# Altium footprint library wat.PcbLib: 1 footprints
Each footprint in its own frame and in the unit in brackets; x right, y up, seen from the top. Pads: shape width x height; smd on the part's side, far side on the other; paste and mask are expansions set on the pad; w line width, h text height; cw(c..) or ccw(c..) is an arc to the next point about the centre after c.
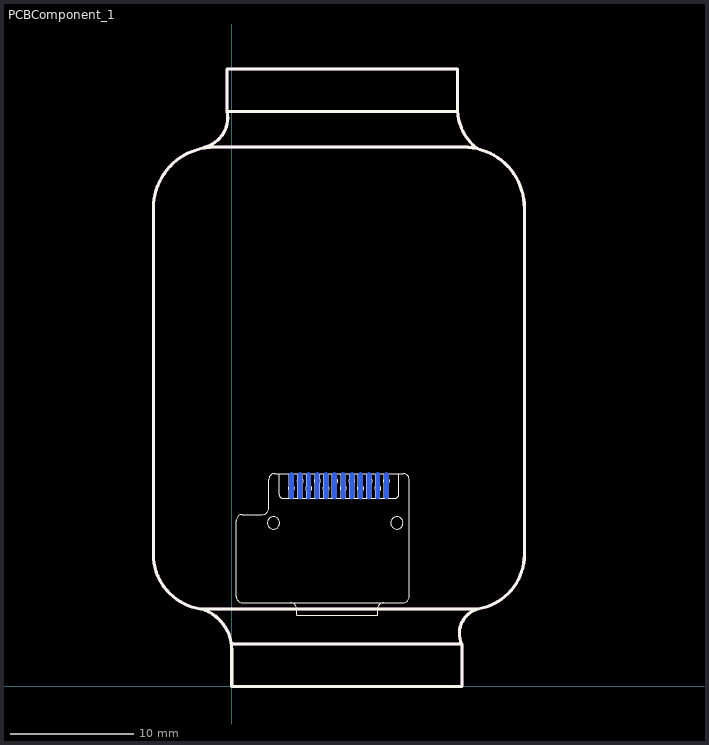
[diagram p0: the footprint, top view; thin cyan lines are the x and y axes]

## PCBComponent_1 [mm]
pads (12):
  oval 0.35x2.159 smd far side: 1(12.542,16.261) 2(11.842,16.261) 3(11.142,16.261) 4(10.442,16.261) 5(9.742,16.261) 6(9.042,16.261) 7(8.342,16.261) 8(7.642,16.261) 9(6.942,16.261) 10(6.242,16.261) 11(5.542,16.261) 12(4.842,16.261)
Top Overlay:
  drawing of 162 lines, arcs and shapes, not listed
Keep-Out Layer:
  lines w0.013: -0.483,6.321 19.687,6.321
  lines w0.254: -2.446,6.276 cw(c-3.45,2.975) 0,2.979 ; -2.277,43.688 ccw(c-2.785,46.101) -0.372,46.609 ; 0,2.975 0,0 18.669,0 18.669,3.429 0,3.429 ; 18.297,46.609 -0.372,46.609 ; 18.297,46.9 18.297,50.038 -0.372,50.038 -0.372,46.609 ; 18.297,47.028 ccw(c22.513,46.9) 19.878,43.606 ; 18.635,3.449 cw(c20.545,4.285) 19.948,6.283 ; -6.34,10.683 ccw(c-1.89,10.683) -2.555,6.283 19.945,6.283 ccw(c19.28,10.683) 23.73,10.683 23.73,38.767 ccw(c18.78,38.767) 18.78,43.717 -1.39,43.717 ccw(c-1.39,38.767) -6.34,38.767 -6.34,10.683